# EAGLE library part CC1310 (library ERNW_parts)
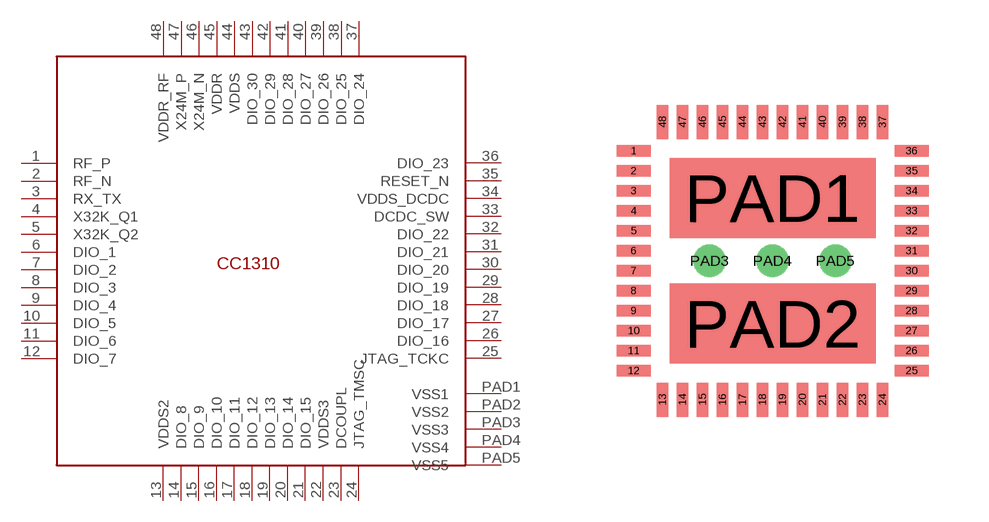
[diagram p7: symbol with the pads of S-PVQFN-N48; footprint S-PVQFN-N48]

Designator prefix -

## CC1310  [S-PVQFN-N48]
1  RF_P
2  RF_N
3  RX_TX
4  X32K_Q1
5  X32K_Q2
6  DIO_1
7  DIO_2
8  DIO_3
9  DIO_4
10  DIO_5
11  DIO_6
12  DIO_7
13  VDDS2
14  DIO_8
15  DIO_9
16  DIO_10
17  DIO_11
18  DIO_12
19  DIO_13
20  DIO_14
21  DIO_15
22  VDDS3
23  DCOUPL
24  JTAG_TMSC
25  JTAG_TCKC
26  DIO_16
27  DIO_17
28  DIO_18
29  DIO_19
30  DIO_20
31  DIO_21
32  DIO_22
33  DCDC_SW
34  VDDS_DCDC
35  RESET_N
36  DIO_23
37  DIO_24
38  DIO_25
39  DIO_26
40  DIO_27
41  DIO_28
42  DIO_29
43  DIO_30
44  VDDS
45  VDDR
46  X24M_N
47  X24M_P
48  VDDR_RF
PAD1  VSS1
PAD2  VSS2
PAD3  VSS3
PAD4  VSS4
PAD5  VSS5

## Footprint S-PVQFN-N48 (pad centres in mm)
smd 0.85 x 0.28: 1 -3.475,2.75; 2 -3.475,2.25; 3 -3.475,1.75; 4 -3.475,1.25; 5 -3.475,0.75; 6 -3.475,0.25; 7 -3.475,-0.25; 8 -3.475,-0.75; 9 -3.475,-1.25; 10 -3.475,-1.75; 11 -3.475,-2.25; 12 -3.475,-2.75; 25 3.475,-2.75; 26 3.475,-2.25; 27 3.475,-1.75; 28 3.475,-1.25; 29 3.475,-0.75; 30 3.475,-0.25; 31 3.475,0.25; 32 3.475,0.75; 33 3.475,1.25; 34 3.475,1.75; 35 3.475,2.25; 36 3.475,2.75
smd 0.28 x 0.85: 13 -2.75,-3.475; 14 -2.25,-3.475; 15 -1.75,-3.475; 16 -1.25,-3.475; 17 -0.75,-3.475; 18 -0.25,-3.475; 19 0.25,-3.475; 20 0.75,-3.475; 21 1.25,-3.475; 22 1.75,-3.475; 23 2.25,-3.475; 24 2.75,-3.475; 37 2.75,3.475; 38 2.25,3.475; 39 1.75,3.475; 40 1.25,3.475; 41 0.75,3.475; 42 0.25,3.475; 43 -0.25,3.475; 44 -0.75,3.475; 45 -1.25,3.475; 46 -1.75,3.475; 47 -2.25,3.475; 48 -2.75,3.475
smd 5.15 x 2: PAD1 0,1.573; PAD2 0,-1.573
drill 0.3: PAD3 -1.573,0; PAD4 0,0; PAD5 1.573,0